# Altium schematic symbol library Memory.SchLib: 8 symbols
Pins are listed as number, name and electrical type; pins without a type are passive.

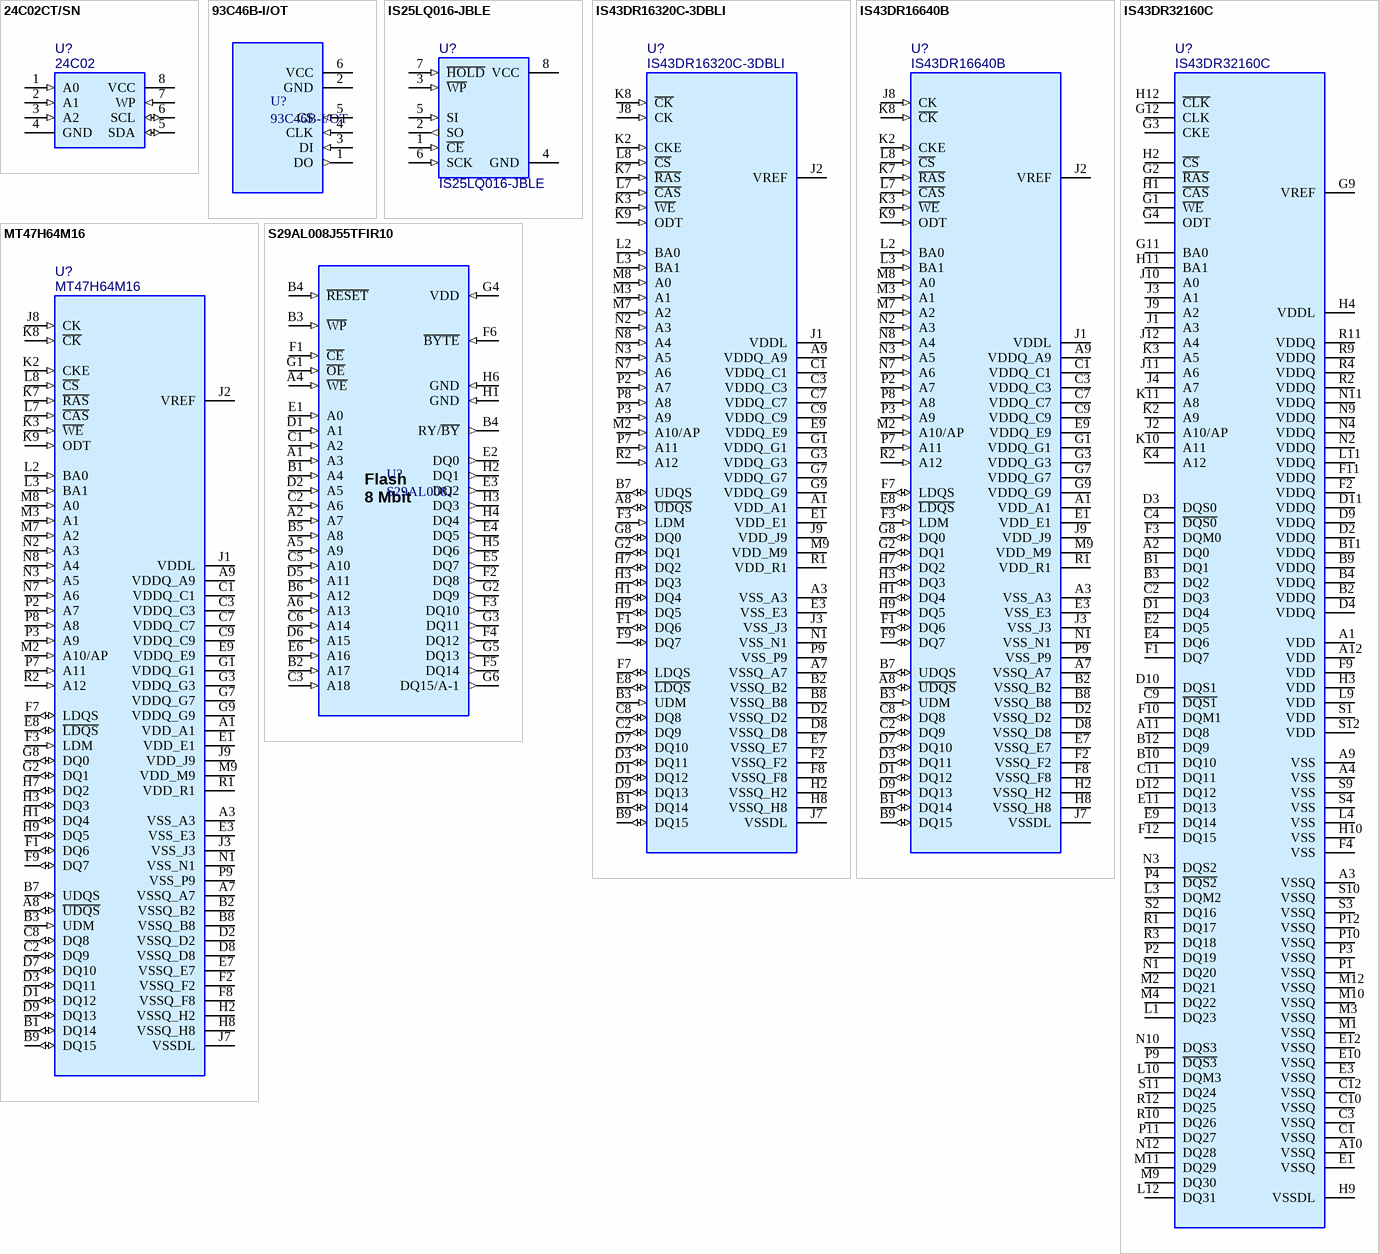
[diagram p0: symbols 24C02CT/SN to S29AL008J55TFIR10]

## 24C02CT/SN
designator U?, comment 24C02
2K 5.0V I2C Serial EEPROM; Manufacturer 1: Microchip; Manufacturer Part Number 1: 24C02CT/SN; Data Bus Width: 8 bit; Supply Voltage Max: 5.5; Supply Voltage Min: 4.5; Organisation: 256 x 8; ComponentLink1Description: Datasheet; Created: 2014-05-26; Last Updated: 2014-05-26; Package: SOIC-8; Supplier 1: Mouser; Supplier Part Number 1: 579-24C02CT/SN; Type: EEPROM; Size: 2 Kbit
footprint SOIC8 (SOIC, 8-Leads, Body 5,0x4,0mm (max), Pitch 1,27mm, IPC Medium Density)
pins: 1 A0 (in), 2 A1 (in), 3 A2 (in), 4 GND (power), 5 SDA (io), 6 SCL (io), 7 WP (in), 8 VCC (power)

## 93C46B-I/OT
designator U?
1K Microwire Compatible Serial EEPROM; Manufacturer 1: Microchip; Data Bus Width: 16 bit; Organisation: 64 x 16; Supply Voltage Max: 5.5V; Supply Voltage Min: 4.5V; ComponentLink1Description: Datasheet; ComponentLink1URL: http://www.mouser.com/ds/2/268/20001749K-261981.pdf; Created: 2013-10-17; Last Updated: 2013-10-17; Manufacturer Part Number 1: 93C46B-I/OT; Package: SOT-23-6; Size: 1 Kbit; Supplier 1: Mouser; Supplier Part Number 1: 579-93C46BT-I/OT; Type: EEPROM
footprint SOT23-6
pins: 1 DO (out) "Serial Data Output", 2 GND (power) "Ground", 3 DI (in) "Serial Data Input", 4 CLK (in) "Serial Data Clock", 5 CS (in) "Chip Select", 6 VCC (power) "Power Supply"

## IS25LQ016-JBLE
designator U?
Flash 16M 2.3-3.6V 104Mhz Serial Flash; Manufacturer 1: ISSI; Data Bus Width: 8 bit; Supply Voltage Max: 3.6V; Supply Voltage Min: 2.3V; Organisation: 2048K x 8; ComponentLink1Description: Datasheet; ComponentLink1URL: http://www.mouser.com/ds/2/198/25LQ016-258257.pdf; Created: 2013-10-15; Last Updated: 2014-06-01; Manufacturer Part Number 1: IS25LQ016-JBLE; Package: SOIC-8; Supplier 1: Mouser; Supplier Part Number 1: 870-IS25LQ016-JBLE; Type: Flash; Size: 16 Mbit
footprint SOIC8 (SOIC, 8-Leads, Body 5,0x4,0mm (max), Pitch 1,27mm, IPC Medium Density)
pins: 1 ~{CE} (in) "Chip Enable", 2 SO (out) "Serial Data Input/Output", 3 ~{WP} (in) "Write Protect/Serial Data Output", 4 GND (power), 5 SI (in) "Serial Data Input/Output", 6 SCK (in) "Serial Data Clock", 7 ~{HOLD} (in) "Pause serial com wihtout resetting the sequence", 8 VCC (power) "Device Power Supply"

## IS43DR16320C-3DBLI
designator U?
32Mx16 DDR2 DRAM; Manufacturer 1: ISSI; Data Bus Width: 16 bit; Supply Voltage Max: 1.9V; Supply Voltage Min: 1.7V; ComponentLink1Description: Datasheet; ComponentLink1URL: http://www.mouser.com/ds/2/198/43-46DR86400C-16320C-258400.pdf; Created: 2013-10-31; Last Updated: 2014-05-22; Manufacturer Part Number 1: IS43DR16320C-3DBLI; Organisation: 32M x 16; Package: BGA-84; Size: 512 Mbit; Supplier 1: Mouser; Supplier Part Number 1: 870-I43DR16320C3DBLI; Type: DDR2 DRAM
footprint BGA84C80P9X15_800X1250X120 (BGA, 84-Leads, Body 8,00x12,50mmx1,20mm, Pitch 0,80mm)
pins: A1 VDD_A1 (power), A3 VSS_A3 (power), A7 VSSQ_A7 (power), A8 ~{UDQS} (io), A9 VDDQ_A9 (power), B1 DQ14 (io), B2 VSSQ_B2 (power), B3 UDM (in), B7 UDQS (io), B8 VSSQ_B8 (power), B9 DQ15 (io), C1 VDDQ_C1 (power), C2 DQ9 (io), C3 VDDQ_C3 (power), C7 VDDQ_C7 (power), C8 DQ8 (io), C9 VDDQ_C9 (power), D1 DQ12 (io), D2 VSSQ_D2 (power), D3 DQ11 (io), D7 DQ10 (io), D8 VSSQ_D8 (power), D9 DQ13 (io), E1 VDD_E1 (power), E3 VSS_E3 (power), E7 VSSQ_E7 (power), E8 ~{LDQS} (io), E9 VDDQ_E9 (power), F1 DQ6 (io), F2 VSSQ_F2 (power), F3 LDM (in), F7 LDQS (io), F8 VSSQ_F8 (power), F9 DQ7 (io), G1 VDDQ_G1 (power), G2 DQ1 (io), G3 VDDQ_G3 (power), G7 VDDQ_G7 (power), G8 DQ0 (io), G9 VDDQ_G9 (power), H1 DQ4 (io), H2 VSSQ_H2 (power), H3 DQ3 (io), H7 DQ2 (io), H8 VSSQ_H8 (power), H9 DQ5 (io), J1 VDDL (power), J2 VREF (power), J3 VSS_J3 (power), J7 VSSDL (power), J8 CK (in), J9 VDD_J9 (power), K2 CKE (in), K3 ~{WE} (in), K7 ~{RAS} (in), K8 ~{CK} (in), K9 ODT (in), L2 BA0 (in), L3 BA1 (in), L7 ~{CAS} (in), L8 ~{CS} (in), M2 A10/AP (in), M3 A1 (in), M7 A2 (in), M8 A0 (in), M9 VDD_M9 (power), N1 VSS_N1 (power), N2 A3 (in), N3 A5 (in), N7 A6 (in), N8 A4 (in), P2 A7 (in), P3 A9 (in), P7 A11 (in), P8 A8 (in), P9 VSS_P9 (power), R1 VDD_R1 (power), R2 A12 (in)

## IS43DR16640B
designator U?
64Mx16 DDR2 DRAM; Manufacturer 1: ISSI; Data Bus Width: 16 bit; Supply Voltage Max: 1.9V; Supply Voltage Min: 1.7V; ComponentLink1Description: Datasheet; Created: 2014-05-22; Last Updated: 2014-05-22; Manufacturer Part Number 1: IS43DR16640B; Organisation: 64M x 16; Package: BGA-84; Size: 1 Gbit; Type: DDR2 DRAM
footprint BGA84C80P9X15_800X1250X120 (BGA, 84-Leads, Body 8,00x12,50mmx1,20mm, Pitch 0,80mm)
pins: A1 VDD_A1 (power), A3 VSS_A3 (power), A7 VSSQ_A7 (power), A8 ~{UDQS} (io), A9 VDDQ_A9 (power), B1 DQ14 (io), B2 VSSQ_B2 (power), B3 UDM (in), B7 UDQS (io), B8 VSSQ_B8 (power), B9 DQ15 (io), C1 VDDQ_C1 (power), C2 DQ9 (io), C3 VDDQ_C3 (power), C7 VDDQ_C7 (power), C8 DQ8 (io), C9 VDDQ_C9 (power), D1 DQ12 (io), D2 VSSQ_D2 (power), D3 DQ11 (io), D7 DQ10 (io), D8 VSSQ_D8 (power), D9 DQ13 (io), E1 VDD_E1 (power), E3 VSS_E3 (power), E7 VSSQ_E7 (power), E8 ~{LDQS} (io), E9 VDDQ_E9 (power), F1 DQ6 (io), F2 VSSQ_F2 (power), F3 LDM (in), F7 LDQS (io), F8 VSSQ_F8 (power), F9 DQ7 (io), G1 VDDQ_G1 (power), G2 DQ1 (io), G3 VDDQ_G3 (power), G7 VDDQ_G7 (power), G8 DQ0 (io), G9 VDDQ_G9 (power), H1 DQ4 (io), H2 VSSQ_H2 (power), H3 DQ3 (io), H7 DQ2 (io), H8 VSSQ_H8 (power), H9 DQ5 (io), J1 VDDL (power), J2 VREF (power), J3 VSS_J3 (power), J7 VSSDL (power), J8 CK (in), J9 VDD_J9 (power), K2 CKE (in), K3 ~{WE} (in), K7 ~{RAS} (in), K8 ~{CK} (in), K9 ODT (in), L2 BA0 (in), L3 BA1 (in), L7 ~{CAS} (in), L8 ~{CS} (in), M2 A10/AP (in), M3 A1 (in), M7 A2 (in), M8 A0 (in), M9 VDD_M9 (power), N1 VSS_N1 (power), N2 A3 (in), N3 A5 (in), N7 A6 (in), N8 A4 (in), P2 A7 (in), P3 A9 (in), P7 A11 (in), P8 A8 (in), P9 VSS_P9 (power), R1 VDD_R1 (power), R2 A12 (in)

## IS43DR32160C
designator U?
4Mx32x4 DDR2 DRAM; Manufacturer 1: ISSI; Manufacturer Part Number 1: IS43DR32160C-3DBLI; Data Bus Width: 32 bit; Supply Voltage Max: 1.9V; Supply Voltage Min: 1.7V; ComponentLink1Description: Datasheet; Created: 2014-05-21; Last Updated: 2014-05-21; Organisation: 4M x 32 x 4; Package: WBGA-126; Size: 512 Mbit; Type: DDR2 DRAM
footprint BGA126C80P12X16_1050X1350X120 (BGA, 126-Leads, Body 10,50x13,50mmx1,20mm, Pitch 0,80mm)
pins: A1 VDD (power), A2 DQ0, A3 VSSQ (power), A4 VSS (power), A9 VSS (power), A10 VSSQ (power), A11 DQ8, A12 VDD (power), B1 DQ1, B2 VDDQ (power), B3 DQ2, B4 VDDQ (power), B9 VDDQ (power), B10 DQ10, B11 VDDQ (power), B12 DQ9, C1 VSSQ (power), C2 DQ3, C3 VSSQ (power), C4 ~{DQS0}, C9 ~{DQS1}, C10 VSSQ (power), C11 DQ11, C12 VSSQ (power), D1 DQ4, D2 VDDQ (power), D3 DQS0, D4 VDDQ (power), D9 VDDQ (power), D10 DQS1, D11 VDDQ (power), D12 DQ12, E1 VSSQ (power), E2 DQ5, E3 VSSQ (power), E4 DQ6, E9 DQ14, E10 VSSQ (power), E11 DQ13, E12 VSSQ (power), F1 DQ7, F2 VDDQ (power), F3 DQM0, F4 VSS (power), F9 VDD (power), F10 DQM1, F11 VDDQ (power), F12 DQ15, G1 ~{WE}, G2 ~{RAS}, G3 CKE, G4 ODT, G9 VREF, G11 BA0, G12 CLK, H1 ~{CAS}, H2 ~{CS}, H3 VDD (power), H4 VDDL (power), H9 VSSDL (power), H10 VSS (power), H11 BA1, H12 ~{CLK}, J1 A3, J2 A10/AP, J3 A1, J4 A7, J9 A2, J10 A0, J11 A6, J12 A4, K2 A9, K3 A5, K4 A12, K10 A11, K11 A8, L1 DQ23, L3 DQM2, L4 VSS (power), L9 VDD (power), L10 DQM3, L11 VDDQ (power), L12 DQ31, M1 VSSQ (power), M2 DQ21, M3 VSSQ (power), M4 DQ22, M9 DQ30, M10 VSSQ (power), M11 DQ29, M12 VSSQ (power), N1 DQ20, N2 VDDQ (power), N3 DQS2, N4 VDDQ (power), N9 VDDQ (power), N10 DQS3, N11 VDDQ (power), N12 DQ28, P1 VSSQ (power), P2 DQ19, P3 VSSQ (power), P4 ~{DQS2}, P9 ~{DQS3}, P10 VSSQ (power), P11 DQ27, P12 VSSQ (power), R1 DQ17, R2 VDDQ (power), R3 DQ18, R4 VDDQ (power), R9 VDDQ (power), R10 DQ26, R11 VDDQ (power), R12 DQ25, S1 VDD (power), S2 DQ16, S3 VSSQ (power), S4 VSS (power), S9 VSS (power), S10 VSSQ (power), S11 DQ24, S12 VDD (power)

## MT47H64M16
designator U?
64Mx16 DDR2 DRAM; Manufacturer 1: Micron; Data Bus Width: 16 bit; Organisation: 64M x 16 x 8 banks; Supply Voltage Max: 1.9V; Supply Voltage Min: 1.7V; ComponentLink1Description: Datasheet; Created: 2014-07-26; Last Updated: 2014-07-26; Manufacturer Part Number 1: MT47H64M16; Package: BGA-84; Size: 1 Gbit; Type: DDR2 DRAM
footprint BGA84C80P9X15_800X1250X120 (BGA, 84-Leads, Body 8,00x12,50mmx1,20mm, Pitch 0,80mm)
pins: A1 VDD_A1 (power), A3 VSS_A3 (power), A7 VSSQ_A7 (power), A8 ~{UDQS} (io), A9 VDDQ_A9 (power), B1 DQ14 (io), B2 VSSQ_B2 (power), B3 UDM (in), B7 UDQS (io), B8 VSSQ_B8 (power), B9 DQ15 (io), C1 VDDQ_C1 (power), C2 DQ9 (io), C3 VDDQ_C3 (power), C7 VDDQ_C7 (power), C8 DQ8 (io), C9 VDDQ_C9 (power), D1 DQ12 (io), D2 VSSQ_D2 (power), D3 DQ11 (io), D7 DQ10 (io), D8 VSSQ_D8 (power), D9 DQ13 (io), E1 VDD_E1 (power), E3 VSS_E3 (power), E7 VSSQ_E7 (power), E8 ~{LDQS} (io), E9 VDDQ_E9 (power), F1 DQ6 (io), F2 VSSQ_F2 (power), F3 LDM (in), F7 LDQS (io), F8 VSSQ_F8 (power), F9 DQ7 (io), G1 VDDQ_G1 (power), G2 DQ1 (io), G3 VDDQ_G3 (power), G7 VDDQ_G7 (power), G8 DQ0 (io), G9 VDDQ_G9 (power), H1 DQ4 (io), H2 VSSQ_H2 (power), H3 DQ3 (io), H7 DQ2 (io), H8 VSSQ_H8 (power), H9 DQ5 (io), J1 VDDL (power), J2 VREF (power), J3 VSS_J3 (power), J7 VSSDL (power), J8 CK (in), J9 VDD_J9 (power), K2 CKE (in), K3 ~{WE} (in), K7 ~{RAS} (in), K8 ~{CK} (in), K9 ODT (in), L2 BA0 (in), L3 BA1 (in), L7 ~{CAS} (in), L8 ~{CS} (in), M2 A10/AP (in), M3 A1 (in), M7 A2 (in), M8 A0 (in), M9 VDD_M9 (power), N1 VSS_N1 (power), N2 A3 (in), N3 A5 (in), N7 A6 (in), N8 A4 (in), P2 A7 (in), P3 A9 (in), P7 A11 (in), P8 A8 (in), P9 VSS_P9 (power), R1 VDD_R1 (power), R2 A12 (in)

## S29AL008J55TFIR10
designator U?, comment S29AL008J
8 Mbit Parallel Flash Memory; Manufacturer 1: Spansion; Manufacturer Part Number 1: S29AL008J55TFIR10; Data Bus Width: 8 bit, 16 bit; Supply Voltage Max: 3.6V; Supply Voltage Min: 2.7V; Organisation: 1M x 8, 512K x 16; ComponentLink1Description: Datasheet; ComponentLink1URL: http://www.mouser.com/ds/2/380/S29AL008J_00-8171.pdf; Created: 2013-12-03; Last Updated: 2013-12-03; Package: BGA-48; Supplier 1: Mouser; Supplier Part Number 1: 797-S29AL008J55TFIR1; Type: Flash; Size: 1 Mbit, 512 Kbit
footprint VBK048 (48 pin fine pitch BGA 8.15mm x 6.15mm)
pins: A1 A3 (in), A2 A7 (in), A4 ~{WE} (in), A5 A9 (in), A6 A13 (in), B1 A4 (in), B2 A17 (in), B3 ~{WP} (in), B4 ~{RESET} (in), B4 RY/~{BY} (out), B5 A8 (in), B6 A12 (in), C1 A2 (in), C2 A6 (in), C3 A18 (in), C5 A10 (in), C6 A14 (in), D1 A1 (in), D2 A5 (in), D5 A11 (in), D6 A15 (in), E1 A0 (in), E2 DQ0 (out), E3 DQ2 (out), E4 DQ5 (out), E5 DQ7 (out), E6 A16 (in), F1 ~{CE} (in), F2 DQ8 (out), F3 DQ10 (out), F4 DQ12 (out), F5 DQ14 (out), F6 ~{BYTE} (in), G1 ~{OE} (in), G2 DQ9 (out), G3 DQ11 (out), G4 VDD (in), G5 DQ13 (out), G6 DQ15/A-1 (out), H1 GND (in), H2 DQ1 (out), H3 DQ3 (out), H4 DQ4 (out), H5 DQ6 (out), H6 GND (in)
text: Flash / 8 Mbit